# Altium schematic symbol library SN74LVC2G240.Schlib: 1 symbol
Pins are listed as number, name and electrical type; pins without a type are passive.

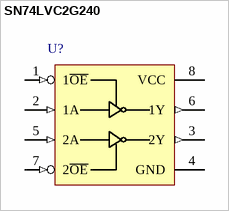
[diagram p0: symbol SN74LVC2G240]

## SN74LVC2G240
designator U?  (value not drawn)
IC, Dual Tri-State Inverter
pins: 1 1~{OE} (in), 2 1A (in), 3 2Y (out), 4 GND (power), 5 2A (in), 6 1Y (out), 7 2~{OE} (in), 8 VCC (power)